# Altium schematic symbol library Buzzer.SchLib: 1 symbol
Pins are listed as number, name and electrical type; pins without a type are passive.

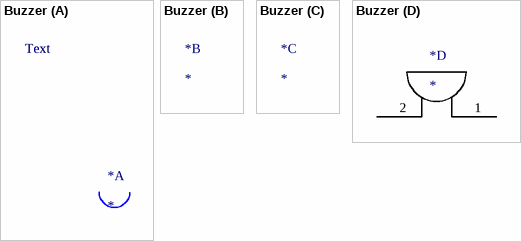
[diagram p0: symbol Buzzer]

## Buzzer
designator *
footprint Buzzer
part D pins: 1 VIN, 2 GND
part A text: Text